# EAGLE library part ADS1220 (library misc)
ADS1220 4-Channel, 2-kSPS, Low-Power, 24-Bit ADC with Integrated PGA and Reference
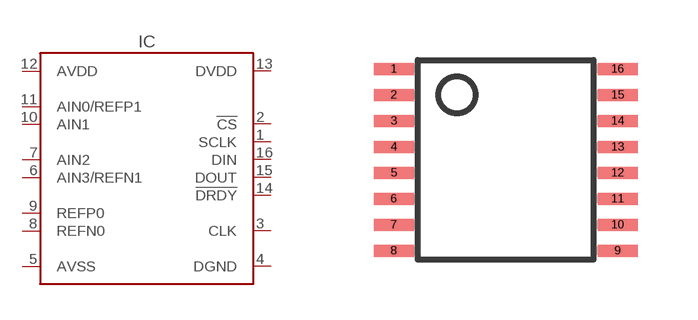
[diagram p98: symbol with the pads of TSSOP16; footprint TSSOP16]

Designator prefix IC

## ADS1220 (LCSC#: C48263; MANF: Texas Instruments; MANF#: ADS1220IPWR)  [TSSOP16]
1  SCLK
2  !CS
3  CLK
4  DGND
5  AVSS
6  AIN3/REFN1
7  AIN2
8  REFN0
9  REFP0
10  AIN1
11  AIN0/REFP1
12  AVDD
13  DVDD
14  !DRDY
15  DOUT
16  DIN

## Footprint TSSOP16 (pad centres in mm)
Thin Shrink Small Outline Plastic 16 3D model <https://grabcad.com/library/msop-and-tssop-packages-1>
smd 1 x 0.3: 1 -2.8,2.275; 2 -2.8,1.625; 3 -2.8,0.975; 4 -2.8,0.325; 5 -2.8,-0.325; 6 -2.8,-0.975; 7 -2.8,-1.625; 8 -2.8,-2.275; 9 2.8,-2.275; 10 2.8,-1.625; 11 2.8,-0.975; 12 2.8,-0.325; 13 2.8,0.325; 14 2.8,0.975; 15 2.8,1.625; 16 2.8,2.275